# Altium footprint library 1715260000.PcbLib: 1 footprints
Each footprint in its own frame and in the unit in brackets; x right, y up, seen from the top. Pads: shape width x height; smd on the part's side, far side on the other; paste and mask are expansions set on the pad; w line width, h text height; cw(c..) or ccw(c..) is an arc to the next point about the centre after c.
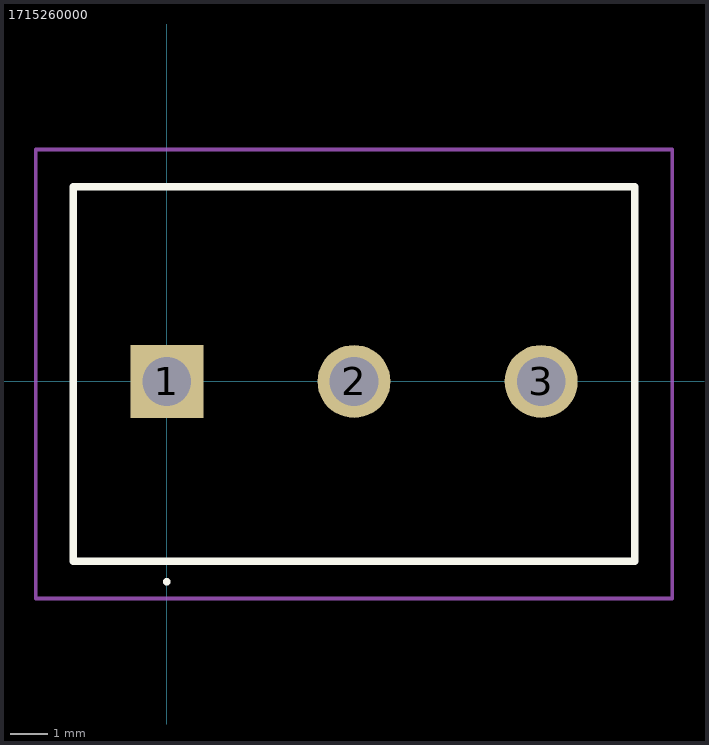
[diagram p0: the footprint, top view; thin cyan lines are the x and y axes]

## 1715260000 [mm]
pads (3):
  rect 1.95x1.95 hole 1.3: 1(0,0)
  round 1.95 hole 1.3: 2(5,0) 3(10,0)
Top Overlay:
  lines w0.1: 0,-5.4 0,-5.4 ; 0,-5.4 ccw(c0,-5.35) 0,-5.3 ; 0,-5.4 cw(c0,-5.35) 0,-5.3 ; 0,-5.3 0,-5.3
  lines w0.2: -2.5,-4.8 12.5,-4.8 12.5,5.2 -2.5,5.2 -2.5,-4.8
Mechanical 15:
  lines w0.1: -2.5,-4.8 12.5,-4.8 12.5,5.2 -2.5,5.2 -2.5,-4.8
Mechanical 20:
  lines w0.1: -3.5,-5.8 13.5,-5.8 13.5,6.2 -3.5,6.2 -3.5,-5.8